# EAGLE library part STM32F42X (library added_parts)
STM32F42X The STM32F429/439 have Cortex-M4 core (with floating point unit), run up to 180 MHz, provide from 512-Kbyte Flash to 2-Mbyte dual-bank Flash and 256-Kbyte SRAM.
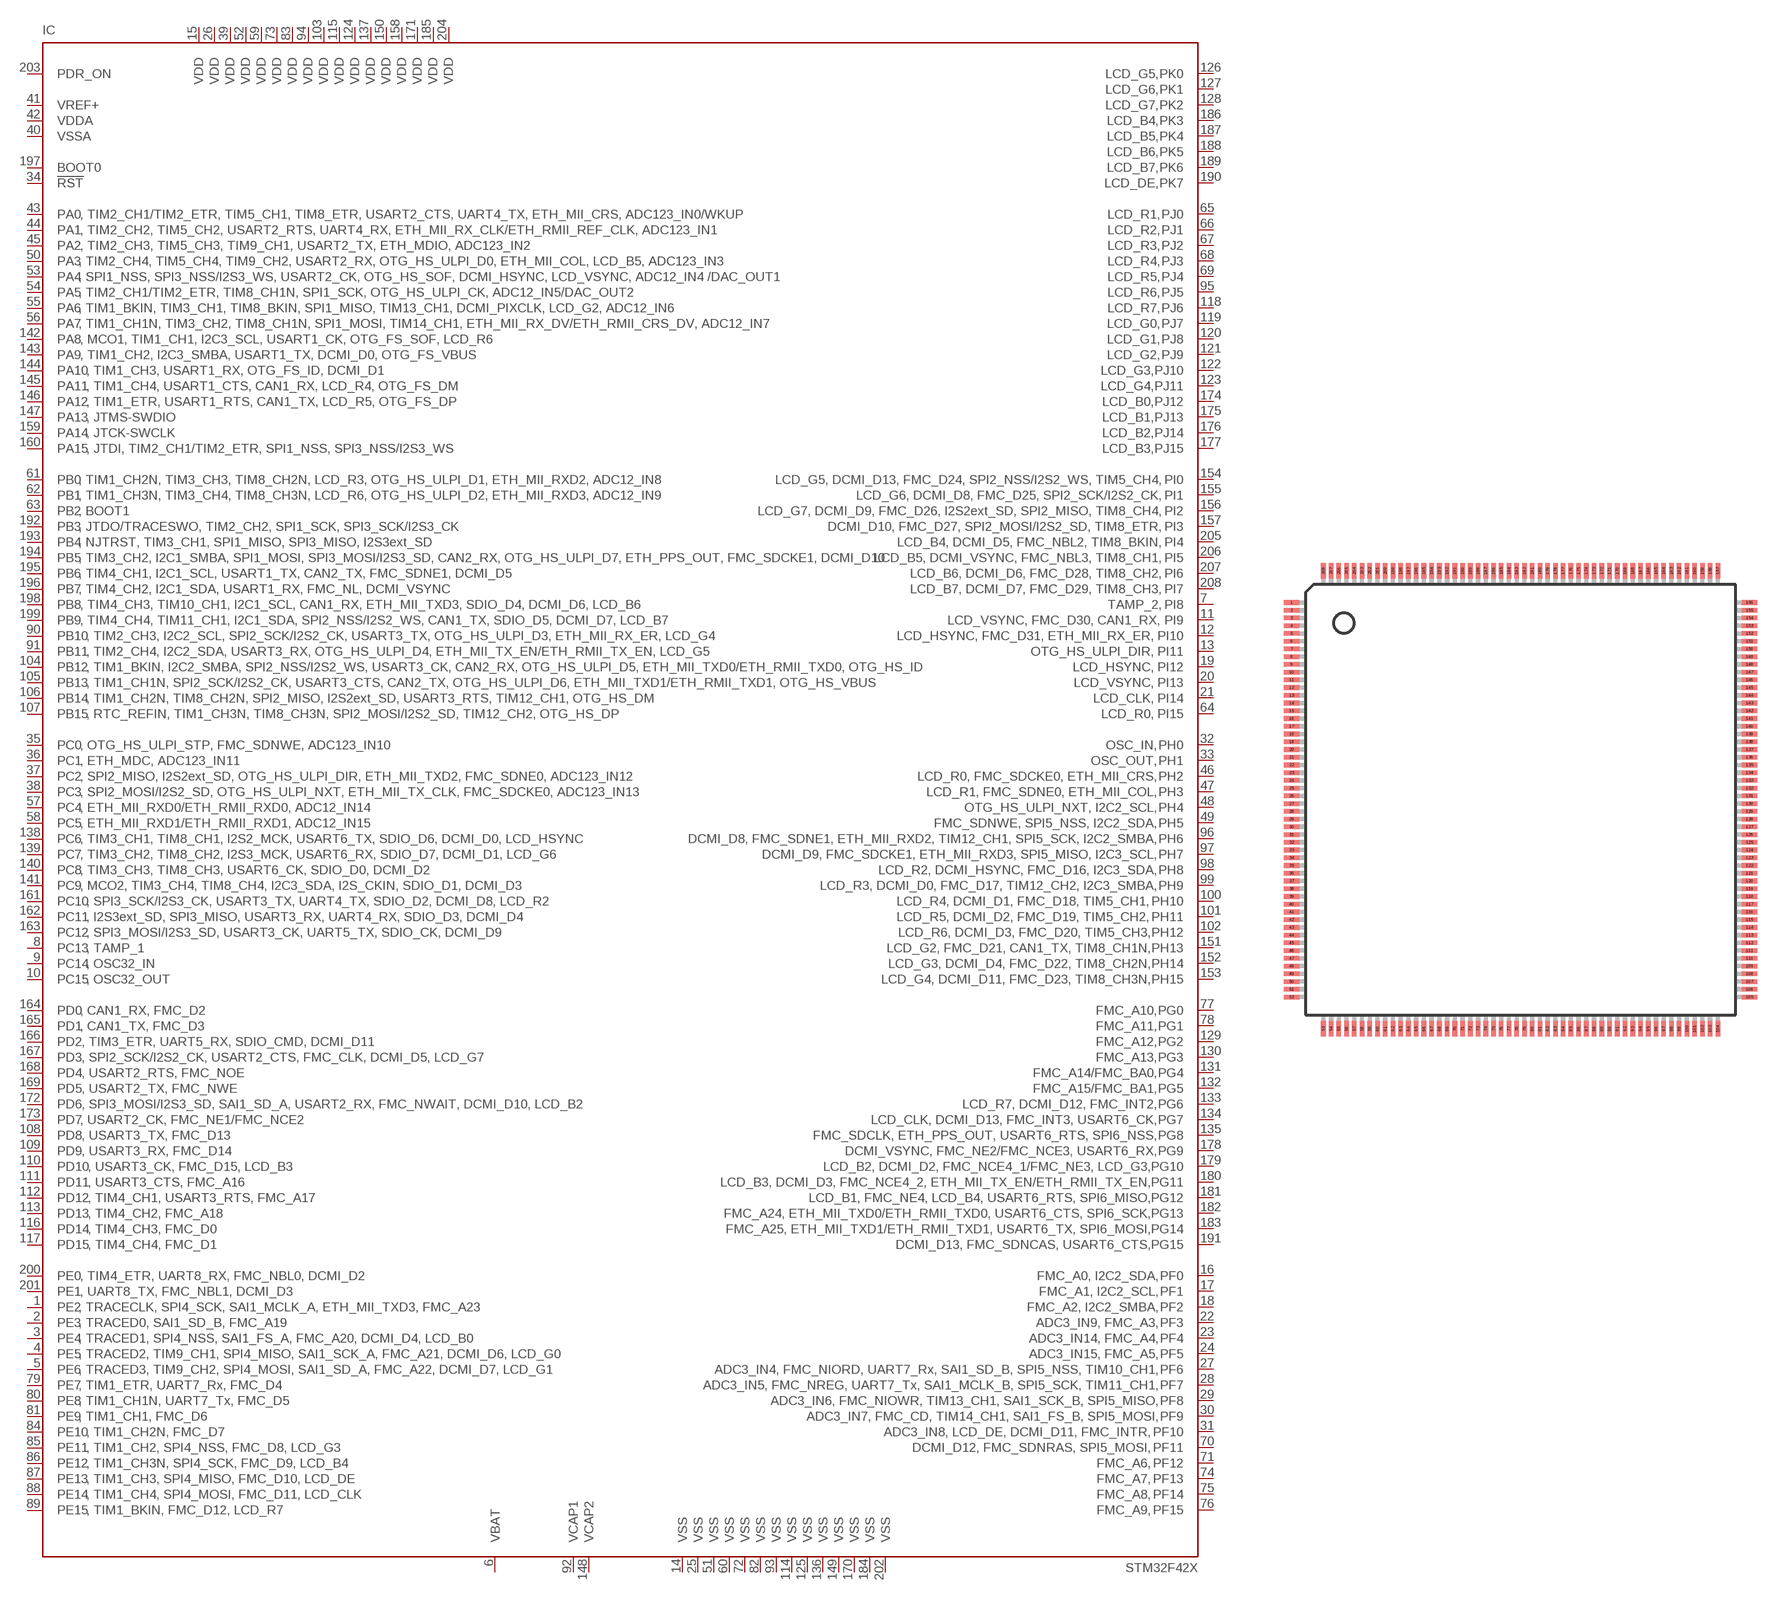
[diagram p0: symbol with the pads of LQFP208; footprint LQFP208]

Designator prefix IC

## STM32F42XBXT  [LQFP208]
1  PE2
2  PE3
3  PE4
4  PE5
5  PE6
6  VBAT  sup
7  PI8
8  PC13
9  PC14
10  PC15
11  PI9
12  PI10
13  PI11
14  VSS  sup
15  VDD  sup
16  PF0
17  PF1
18  PF2
19  PI12
20  PI13
21  PI14
22  PF3
23  PF4
24  PF5
25  VSS  sup
26  VDD  sup
27  PF6
28  PF7
29  PF8
30  PF9
31  PF10
32  PH0
33  PH1
34  !RST  in
35  PC0
36  PC1
37  PC2
38  PC3
39  VDD  sup
40  VSSA  sup
41  VREF+  pas
42  VDDA  sup
43  PA0
44  PA1
45  PA2
46  PH2
47  PH3
48  PH4
49  PH5
50  PA3
51  VSS  sup
52  VDD  sup
53  PA4
54  PA5
55  PA6
56  PA7
57  PC4
58  PC5
59  VDD  sup
60  VSS  sup
61  PB0
62  PB1
63  PB2
64  PI15
65  PJ0
66  PJ1
67  PJ2
68  PJ3
69  PJ4
70  PF11
71  PF12
72  VSS  sup
73  VDD  sup
74  PF13
75  PF14
76  PF15
77  PG0
78  PG1
79  PE7
80  PE8
81  PE9
82  VSS  sup
83  VDD  sup
84  PE10
85  PE11
86  PE12
87  PE13
88  PE14
89  PE15
90  PB10
91  PB11
92  VCAP1  pas
93  VSS  sup
94  VDD  sup
95  PJ5
96  PH6
97  PH7
98  PH8
99  PH9
100  PH10
101  PH11
102  PH12
103  VDD  sup
104  PB12
105  PB13
106  PB14
107  PB15
108  PD8
109  PD9
110  PD10
111  PD11
112  PD12
113  PD13
114  VSS
115  VDD
116  PD14
117  PD15
118  PJ6
119  PJ7
120  PJ8
121  PJ9
122  PJ10
123  PJ11
124  VDD
125  VSS
126  PK0
127  PK1
128  PK2
129  PG2
130  PG3
131  PG4
132  PG5
133  PG6
134  PG7
135  PG8
136  VSS  sup
137  VDD  sup
138  PC6
139  PC7
140  PC8
141  PC9
142  PA8
143  PA9
144  PA10
145  PA11
146  PA12
147  PA13
148  VCAP2  pas
149  VSS  sup
150  VDD  sup
151  PH13
152  PH14
153  PH15
154  PI0
155  PI1
156  PI2
157  PI3
158  VDD  sup
159  PA14
160  PA15
161  PC10
162  PC11
163  PC12
164  PD0
165  PD1
166  PD2
167  PD3
168  PD4
169  PD5
170  VSS  sup
171  VDD  sup
172  PD6
173  PD7
174  PJ12
175  PJ13
176  PJ14
177  PJ15
178  PG9
179  PG10
180  PG11
181  PG12
182  PG13
183  PG14
184  VSS  sup
185  VDD  sup
186  PK3
187  PK4
188  PK5
189  PK6
190  PK7
191  PG15
192  PB3
193  PB4
194  PB5
195  PB6
196  PB7
197  BOOT0  in
198  PB8
199  PB9
200  PE0
201  PE1
202  VSS  sup
203  PDR_ON  sup
204  VDD  sup
205  PI4
206  PI5
207  PI6
208  PI7

## Footprint LQFP208 (pad centres in mm)
LQFP208
smd 1 x 0.3: 1 -14.8,12.75; 2 -14.8,12.25; 3 -14.8,11.75; 4 -14.8,11.25; 5 -14.8,10.75; 6 -14.8,10.25; 7 -14.8,9.75; 8 -14.8,9.25; 9 -14.8,8.75; 10 -14.8,8.25; 11 -14.8,7.75; 12 -14.8,7.25; 13 -14.8,6.75; 14 -14.8,6.25; 15 -14.8,5.75; 16 -14.8,5.25; 17 -14.8,4.75; 18 -14.8,4.25; 19 -14.8,3.75; 20 -14.8,3.25; 21 -14.8,2.75; 22 -14.8,2.25; 23 -14.8,1.75; 24 -14.8,1.25; 25 -14.8,0.75; 26 -14.8,0.25; 27 -14.8,-0.25; 28 -14.8,-0.75; 29 -14.8,-1.25; 30 -14.8,-1.75; 31 -14.8,-2.25; 32 -14.8,-2.75; 33 -14.8,-3.25; 34 -14.8,-3.75; 35 -14.8,-4.25; 36 -14.8,-4.75; 37 -14.8,-5.25; 38 -14.8,-5.75; 39 -14.8,-6.25; 40 -14.8,-6.75; 41 -14.8,-7.25; 42 -14.8,-7.75; 43 -14.8,-8.25; 44 -14.8,-8.75; 45 -14.8,-9.25; 46 -14.8,-9.75; 47 -14.8,-10.25; 48 -14.8,-10.75; 49 -14.8,-11.25; 50 -14.8,-11.75; 51 -14.8,-12.25; 52 -14.8,-12.75; 105 14.8,-12.75; 106 14.8,-12.25; 107 14.8,-11.75; 108 14.8,-11.25; 109 14.8,-10.75; 110 14.8,-10.25; 111 14.8,-9.75; 112 14.8,-9.25; 113 14.8,-8.75; 114 14.8,-8.25; 115 14.8,-7.75; 116 14.8,-7.25; 117 14.8,-6.75; 118 14.8,-6.25; 119 14.8,-5.75; 120 14.8,-5.25; 121 14.8,-4.75; 122 14.8,-4.25; 123 14.8,-3.75; 124 14.8,-3.25; 125 14.8,-2.75; 126 14.8,-2.25; 127 14.8,-1.75; 128 14.8,-1.25; 129 14.8,-0.75; 130 14.8,-0.25; 131 14.8,0.25; 132 14.8,0.75; 133 14.8,1.25; 134 14.8,1.75; 135 14.8,2.25; 136 14.8,2.75; 137 14.8,3.25; 138 14.8,3.75; 139 14.8,4.25; 140 14.8,4.75; 141 14.8,5.25; 142 14.8,5.75; 143 14.8,6.25; 144 14.8,6.75; 145 14.8,7.25; 146 14.8,7.75; 147 14.8,8.25; 148 14.8,8.75; 149 14.8,9.25; 150 14.8,9.75; 151 14.8,10.25; 152 14.8,10.75; 153 14.8,11.25; 154 14.8,11.75; 155 14.8,12.25; 156 14.8,12.75
smd 0.3 x 1: 53 -12.75,-14.8; 54 -12.25,-14.8; 55 -11.75,-14.8; 56 -11.25,-14.8; 57 -10.75,-14.8; 58 -10.25,-14.8; 59 -9.75,-14.8; 60 -9.25,-14.8; 61 -8.75,-14.8; 62 -8.25,-14.8; 63 -7.75,-14.8; 64 -7.25,-14.8; 65 -6.75,-14.8; 66 -6.25,-14.8; 67 -5.75,-14.8; 68 -5.25,-14.8; 69 -4.75,-14.8; 70 -4.25,-14.8; 71 -3.75,-14.8; 72 -3.25,-14.8; 73 -2.75,-14.8; 74 -2.25,-14.8; 75 -1.75,-14.8; 76 -1.25,-14.8; 77 -0.75,-14.8; 78 -0.25,-14.8; 79 0.25,-14.8; 80 0.75,-14.8; 81 1.25,-14.8; 82 1.75,-14.8; 83 2.25,-14.8; 84 2.75,-14.8; 85 3.25,-14.8; 86 3.75,-14.8; 87 4.25,-14.8; 88 4.75,-14.8; 89 5.25,-14.8; 90 5.75,-14.8; 91 6.25,-14.8; 92 6.75,-14.8; 93 7.25,-14.8; 94 7.75,-14.8; 95 8.25,-14.8; 96 8.75,-14.8; 97 9.25,-14.8; 98 9.75,-14.8; 99 10.25,-14.8; 100 10.75,-14.8; 101 11.25,-14.8; 102 11.75,-14.8; 103 12.25,-14.8; 104 12.75,-14.8; 157 12.75,14.8; 158 12.25,14.8; 159 11.75,14.8; 160 11.25,14.8; 161 10.75,14.8; 162 10.25,14.8; 163 9.75,14.8; 164 9.25,14.8; 165 8.75,14.8; 166 8.25,14.8; 167 7.75,14.8; 168 7.25,14.8; 169 6.75,14.8; 170 6.25,14.8; 171 5.75,14.8; 172 5.25,14.8; 173 4.75,14.8; 174 4.25,14.8; 175 3.75,14.8; 176 3.25,14.8; 177 2.75,14.8; 178 2.25,14.8; 179 1.75,14.8; 180 1.25,14.8; 181 0.75,14.8; 182 0.25,14.8; 183 -0.25,14.8; 184 -0.75,14.8; 185 -1.25,14.8; 186 -1.75,14.8; 187 -2.25,14.8; 188 -2.75,14.8; 189 -3.25,14.8; 190 -3.75,14.8; 191 -4.25,14.8; 192 -4.75,14.8; 193 -5.25,14.8; 194 -5.75,14.8; 195 -6.25,14.8; 196 -6.75,14.8; 197 -7.25,14.8; 198 -7.75,14.8; 199 -8.25,14.8; 200 -8.75,14.8; 201 -9.25,14.8; 202 -9.75,14.8; 203 -10.25,14.8; 204 -10.75,14.8; 205 -11.25,14.8; 206 -11.75,14.8; 207 -12.25,14.8; 208 -12.75,14.8